# EAGLE library part TPS63060 (library marionette)
buck boost converter Vin = (2.5V, 12V) Vabs_max = 17V, Vout = (2.5V, 8.0V), Fsync = 2.4MHz, Pkg.: WSON-10, Mfg. Part No.: TPS63060DSCT, Digikey Part No.: 296-30178-1-ND
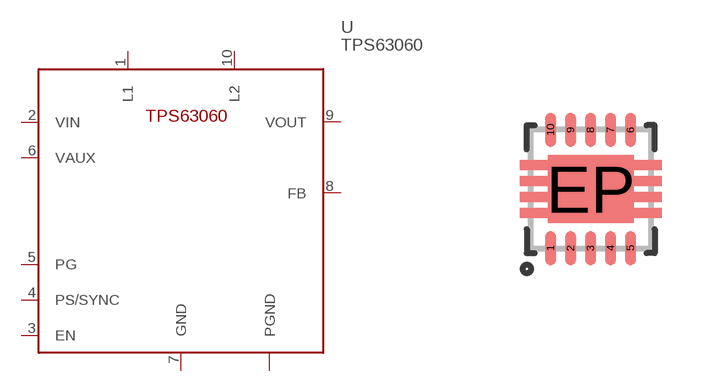
[diagram p16: symbol with the pads of WSON10-EP; footprint WSON10-EP]

Designator prefix U

## TPS63060  [WSON10-EP]
1  L1
2  VIN  pwr
3  EN  in
4  PS/SYNC  in
5  PG  oc
6  VAUX
7  GND  pwr
8  FB  in
9  VOUT  pwr
10  L2
EP  PGND  pwr

## Footprint WSON10-EP (pad centres in mm)
TI package, alias 10-WSON 3mm x 3mm, alias 10-WFDFN with exposed pad Created for TPS63060.
smd 0.28 x 0.86: 1 -1,-1.48; 2 -0.5,-1.48; 3 0,-1.48; 4 0.5,-1.48; 5 1,-1.48; 6 1,1.48; 7 0.5,1.48; 8 0,1.48; 9 -0.5,1.48; 10 -1,1.48
smd 2.15 x 1.7: EP 0,0